# Altium footprint library ТРАНЗИСТОРЫ-MM.PcbLib: 63 footprints (part 2 of 4)
Each footprint in its own frame and in the unit in brackets; x right, y up, seen from the top. Pads: shape width x height; smd on the part's side, far side on the other; paste and mask are expansions set on the pad; w line width, h text height; cw(c..) or ccw(c..) is an arc to the next point about the centre after c.
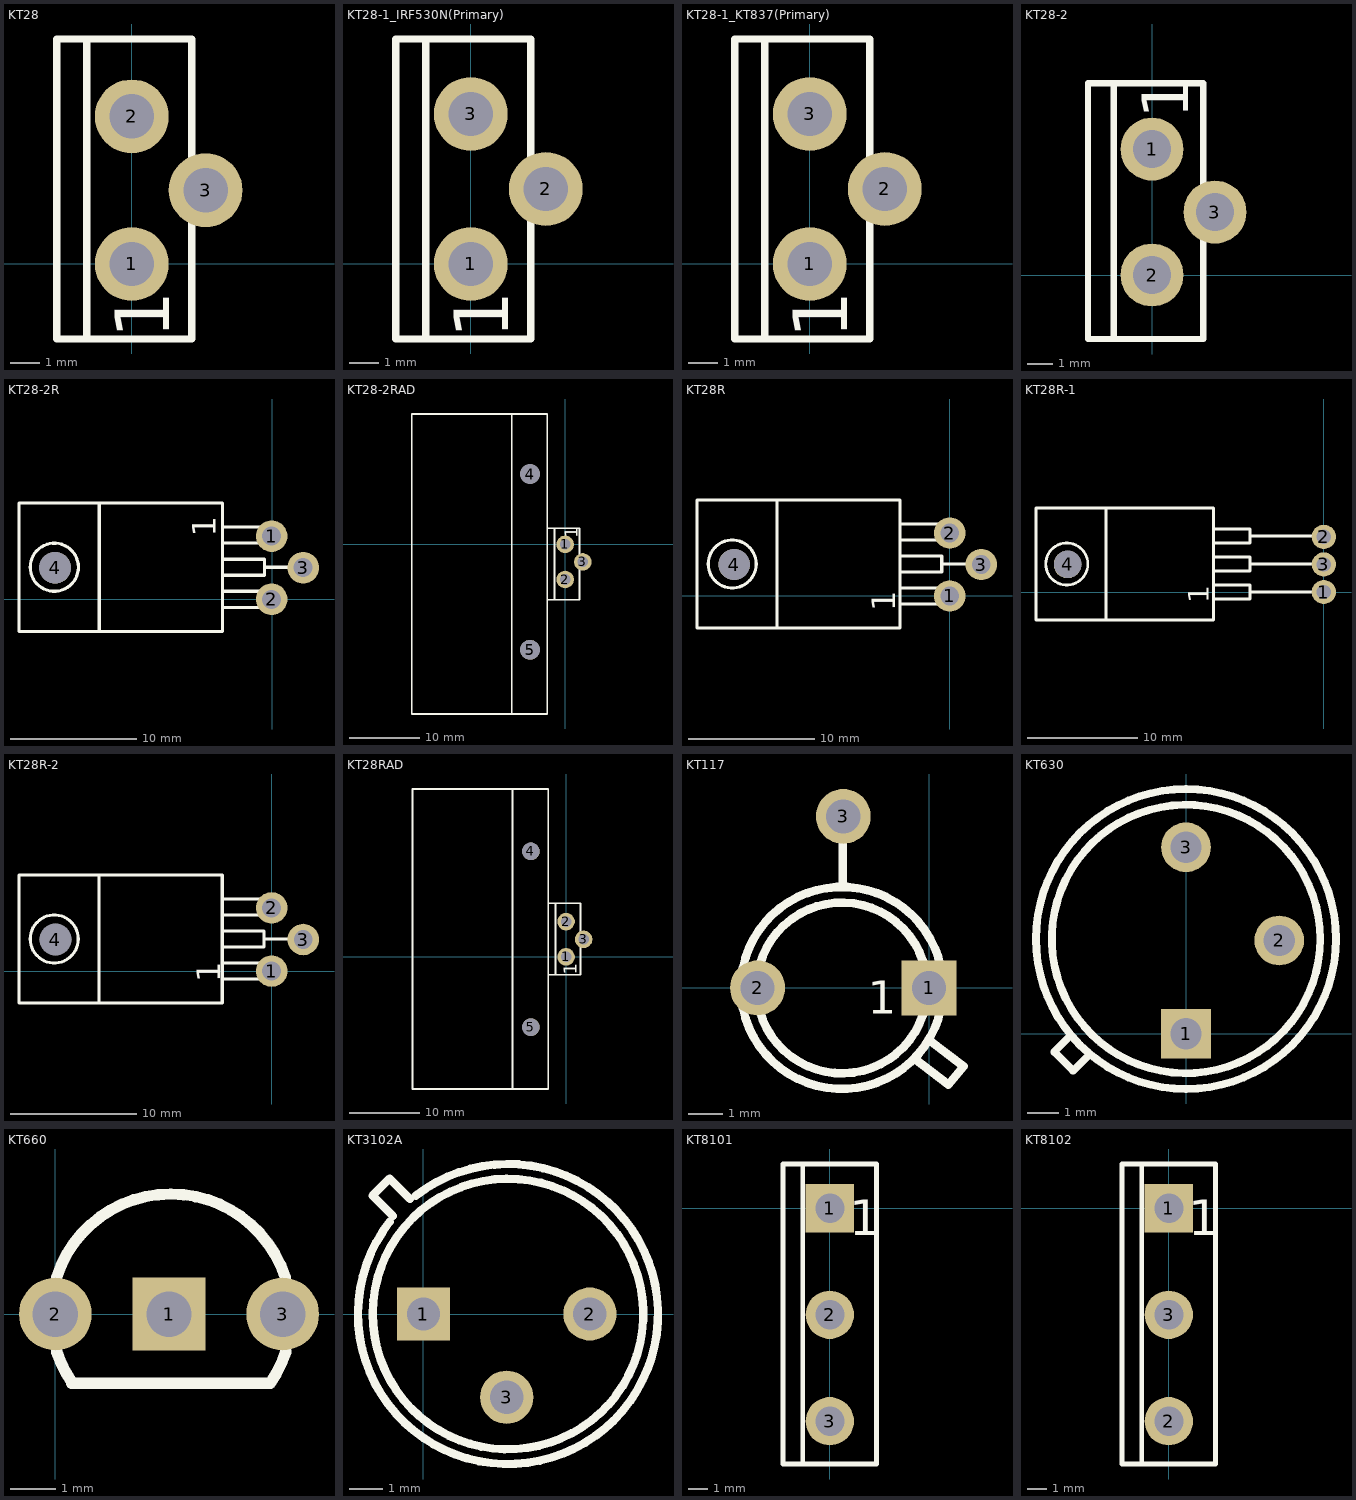
[diagram p1: the footprints below, top view; thin cyan lines are the x and y axes]

## KT28 [mm]
pads (3):
  round 2.5 hole 1.5: 1(0,0) 2(0,5) 3(2.5,2.5)
Top Overlay:
  lines w0.25: -1.524,-2.54 -1.524,7.62 ; -2.54,-2.54 2.032,-2.54 2.032,7.62 -2.54,7.62 -2.54,-2.54
  text "1" at 1.885,-2.54 h3.17

## KT28-1_IRF530N(Primary) [mm]
pads (3):
  round 2.5 hole 1.5: 1(0,0) 2(2.54,2.54) 3(0,5.08)
Top Overlay:
  lines w0.25: -1.524,-2.54 -1.524,7.62 ; -2.54,-2.54 2.032,-2.54 2.032,7.62 -2.54,7.62 -2.54,-2.54
  text "1" at 1.885,-2.54 h3.17

## KT28-1_KT837(Primary) [mm]
pads (3):
  round 2.5 hole 1.5: 1(0,0) 2(2.54,2.54) 3(0,5.08)
Top Overlay:
  lines w0.25: -1.524,-2.54 -1.524,7.62 ; -2.54,-2.54 2.032,-2.54 2.032,7.62 -2.54,7.62 -2.54,-2.54
  text "1" at 1.885,-2.54 h3.17

## KT28-2 [mm]
pads (3):
  round 2.5 hole 1.5: 1(0,5) 2(0,0) 3(2.5,2.5)
Top Overlay:
  lines w0.25: -1.524,-2.54 -1.524,7.62 ; -2.54,-2.54 2.032,-2.54 2.032,7.62 -2.54,7.62 -2.54,-2.54
  text "1" at 2.063,6.198 h3.17

## KT28-2R [mm]
pads (4):
  round 2.5 hole 1.5: 1(-0.04,5) 2(-0.04,0) 3(2.46,2.5)
  round 2.5 hole 2.5: 4(-17.165,2.5)
Top Overlay:
  circle w0.25: c-17.221,2.54 r1.905
  lines w0.25: -13.716,-2.54 -3.937,-2.54 ; -13.716,7.62 -3.937,7.62 ; -3.912,-2.54 -3.912,7.62 ; -3.912,-0.635 -0.61,-0.635 -0.61,-0.127 -0.61,0.635 -3.912,0.635 ; -3.912,1.905 -0.61,1.905 -0.61,2.159 -0.61,2.921 -0.61,3.175 -3.912,3.175 ; -3.912,4.445 -0.61,4.445 -0.61,5.207 -0.61,5.715 -3.912,5.715 ; -0.61,0 -0.483,0 ; -0.61,2.54 -0.483,2.54 ; -0.584,5.055 -0.483,5.055 ; -0.508,0 0,0 ; -0.508,2.54 2.54,2.54 ; -0.508,5.08 0,5.08 ; -20.015,-2.54 -20.015,7.62 -18.491,7.62 -17.221,7.62 -13.665,7.62 -13.665,-2.54 -17.221,-2.54 -18.491,-2.54 -20.015,-2.54
  text "1" at -3.83,4.953 h3.17

## KT28-2RAD [mm]
pads (5):
  round 2.5 hole 1.5: 1(0,0) 2(0,-5) 3(2.5,-2.5)
  round 2.8 hole 2.8: 4(-5,10) 5(-5,-15)
Top Overlay:
  lines w0.25: -7.62,-24.13 -7.62,18.542 ; -1.524,-7.874 -1.524,2.286 ; -2.54,-7.874 2.032,-7.874 2.032,2.286 -2.54,2.286 ; -2.54,-7.874 -2.54,2.286 ; -2.54,-7.874 -2.54,-24.13 -21.844,-24.13 -21.844,18.542 -2.54,18.542 -2.54,2.286
  text "1" at 2.393,0.889 h3.17

## KT28R [mm]
pads (4):
  round 2.5 hole 1.5: 1(0,0) 2(0,5) 3(2.5,2.5)
  round 2.5 hole 2.5: 4(-17.125,2.5)
Top Overlay:
  circle w0.25: c-17.272,2.54 r1.905
  lines w0.25: -3.937,-0.635 -0.635,-0.635 -0.635,0.635 -3.937,0.635 ; -3.937,1.905 -0.635,1.905 -0.635,3.175 -3.937,3.175 ; -3.937,4.445 -0.635,4.445 -0.635,5.715 -3.937,5.715 ; -0.635,0 0,0 -0.508,0 ; -0.635,2.54 2.54,2.54 ; -0.635,5.08 0,5.08 ; -3.937,-2.54 -20.066,-2.54 -20.066,7.62 -3.937,7.62 ; -3.937,-2.54 -13.716,-2.54 -13.716,7.62 -3.937,7.62 ; -3.937,-2.54 -3.937,7.62
  text "1" at -3.703,-1.218 h3.17

## KT28R-1 [mm]
pads (4):
  round 2.2 hole 1.3: 1(0,0) 2(0,5) 3(0,2.5)
  round 2.5 hole 2.5: 4(-23.25,2.5)
Top Overlay:
  circle w0.25: c-23.317,2.54 r1.905
  lines w0.25: -19.812,-2.54 -10.033,-2.54 ; -19.812,7.62 -10.033,7.62 ; -10.008,-2.54 -10.008,7.62 ; -10.008,-0.635 -6.706,-0.635 -6.706,-0.127 -6.706,0.635 -10.008,0.635 ; -10.008,1.905 -6.706,1.905 -6.706,2.159 -6.706,2.921 -6.706,3.175 -10.008,3.175 ; -10.008,4.445 -6.706,4.445 -6.706,5.207 -6.706,5.715 -10.008,5.715 ; -6.706,0 -6.579,0 ; -6.706,2.54 -6.579,2.54 ; -6.68,5.055 -6.579,5.055 ; -6.604,0 -6.096,0 0,0 ; -6.604,2.54 -3.556,2.54 0,2.54 ; -6.604,5.08 -6.096,5.08 0,5.08 ; -26.111,-2.54 -26.111,7.62 -24.587,7.62 -23.317,7.62 -19.761,7.62 -19.761,-2.54 -23.317,-2.54 -24.587,-2.54 -26.111,-2.54
  text "1" at -9.799,-1.016 h3.17

## KT28R-2 [mm]
pads (4):
  round 2.5 hole 1.5: 1(0,0) 2(0,5) 3(2.5,2.5)
  round 2.5 hole 2.5: 4(-17.125,2.5)
Top Overlay:
  circle w0.25: c-17.221,2.54 r1.905
  lines w0.25: -13.716,-2.54 -3.937,-2.54 ; -13.716,7.62 -3.937,7.62 ; -3.912,-2.54 -3.912,7.62 ; -3.912,-0.635 -0.61,-0.635 -0.61,-0.127 -0.61,0.635 -3.912,0.635 ; -3.912,1.905 -0.61,1.905 -0.61,2.159 -0.61,2.921 -0.61,3.175 -3.912,3.175 ; -3.912,4.445 -0.61,4.445 -0.61,5.207 -0.61,5.715 -3.912,5.715 ; -0.61,0 -0.483,0 ; -0.61,2.54 -0.483,2.54 ; -0.584,5.055 -0.483,5.055 ; -0.508,0 0,0 ; -0.508,2.54 2.54,2.54 ; -0.508,5.08 0,5.08 ; -20.015,-2.54 -20.015,7.62 -18.491,7.62 -17.221,7.62 -13.665,7.62 -13.665,-2.54 -17.221,-2.54 -18.491,-2.54 -20.015,-2.54
  text "1" at -3.449,-0.889 h3.17

## KT28RAD [mm]
pads (5):
  round 2.5 hole 1.5: 1(0,0) 2(0,5) 3(2.5,2.5)
  round 2.5 hole 2.5: 4(-5,15) 5(-5,-10)
Top Overlay:
  lines w0.25: -7.62,-18.796 -7.62,23.876 ; -1.524,-2.54 -1.524,7.62 ; -2.54,-2.54 2.032,-2.54 2.032,7.62 -2.54,7.62 ; -2.54,-2.54 -2.54,7.62 ; -2.54,-2.54 -2.54,-18.796 -21.844,-18.796 -21.844,23.876 -2.54,23.876 -2.54,7.62
  text "1" at 2.139,-2.54 h3.17

## KT117 [mm]
pads (3):
  rect 1.6x1.6 hole 1: 1(0,0)
  round 1.6 hole 1: 2(-5,0) 3(-2.5,5)
Top Overlay:
  circle w0.25: c-2.54,0 r2.946
  circle w0.25: c-2.54,0 r2.489
  lines w0.25: -2.51,2.941 -2.51,4.94 ; -0.432,-2.057 0.559,-2.819 1.016,-2.286 0,-1.524
  text "1" at -1.791,-0.749 h0.95

## KT630 [mm]
pads (3):
  rect 1.6x1.6 hole 1: 1(0,0)
  round 1.6 hole 1: 2(3,3) 3(0,6)
Top Overlay:
  circle w0.25: c0,3.048 r4.318
  circle w0.25: c0,3.048 r4.826
  lines w0.25: -3.708,-0.051 -4.242,-0.584 -3.632,-1.194 -3.099,-0.66

## KT660 [mm]
pads (3):
  rect 1.6x1.6 hole 1: 1(2.5,0)
  round 1.6 hole 1: 2(0,0) 3(5,0)
Top Overlay:
  lines w0.025: 2.515,2.667 2.54,2.667
  lines w0.25: 0.027,-0.817 ccw(c2.54,0) 0.375,-1.516 ; 0.027,0.817 cw(c2.54,0) 5.055,0.812 ; 0.356,-1.524 4.724,-1.524 ccw(c2.54,0) 5.075,-0.819

## KT3102A [mm]
pads (3):
  rect 1.6x1.6 hole 1: 1(0,0)
  round 1.6 hole 1: 2(5,0) 3(2.5,-2.5)
Top Overlay:
  lines w0.25: -1.524,0.007 ccw(c2.54,0) -1.524,0.057 ; -1.011,2.775 ccw(c2.54,0) -0.228,3.556 ; -0.914,2.946 -1.524,3.556 -1.016,4.064 -0.406,3.454

## KT8101 [mm]
pads (3):
  rect 2.5x2.5 hole 1.5: 1(0,0)
  round 2.5 hole 1.5: 2(0,-5.5) 3(0,-11)
Top Overlay:
  lines w0.25: -1.397,-13.208 -1.397,2.286 ; -2.413,-13.208 -2.413,-10.922 -2.413,2.286 2.413,2.286 2.413,-13.208 -2.413,-13.208
  text "1" at 1.016,-2.012 h3.17

## KT8102 [mm]
pads (3):
  rect 2.5x2.5 hole 1.5: 1(0,0)
  round 2.5 hole 1.5: 2(0,-11) 3(0,-5.5)
Top Overlay:
  lines w0.25: -1.397,-13.208 -1.397,2.286 ; -2.413,-13.208 -2.413,-10.922 -2.413,2.286 2.413,2.286 2.413,-13.208 -2.413,-13.208
  text "1" at 1.016,-2.012 h3.17